# Altium footprint library JST-XH TH 2.54mm 3-pos.PcbLib: 1 footprints
Each footprint in its own frame and in the unit in brackets; x right, y up, seen from the top. Pads: shape width x height; smd on the part's side, far side on the other; paste and mask are expansions set on the pad; w line width, h text height; cw(c..) or ccw(c..) is an arc to the next point about the centre after c.
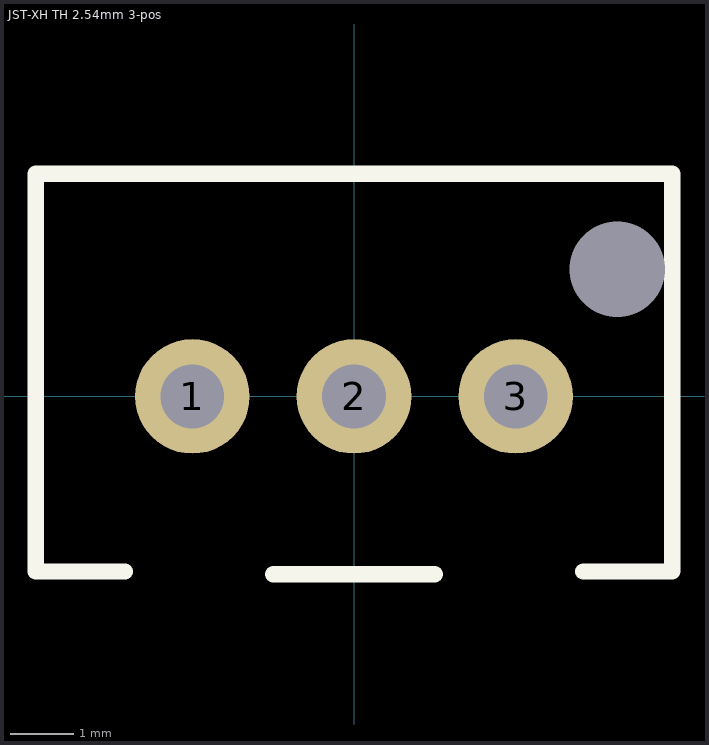
[diagram p0: the footprint, top view; thin cyan lines are the x and y axes]

## JST-XH TH 2.54mm 3-pos [mm]
pads (4):
  round 1.8 hole 1: 1(-2.54,0) 2(0,0) 3(2.54,0)
  round 0 hole 1.5 unplated: 1(4.14,2)
Top Overlay:
  lines w0.254: -3.6,-2.75 -5,-2.75 -5,3.5 5,3.5 5,-2.747 4.997,-2.75 ; -1.27,-2.794 1.27,-2.794 ; 3.602,-2.748 4.999,-2.748
3D body "JST - XH - Thru (V) - 3Pin - 2.54mm.x_t": height 7.21, standoff -3, extent -4.877,-2.489 4.877,3.353